# EAGLE library part SOFT_LATCHING_SWITCH (library Linus Eagle Library)
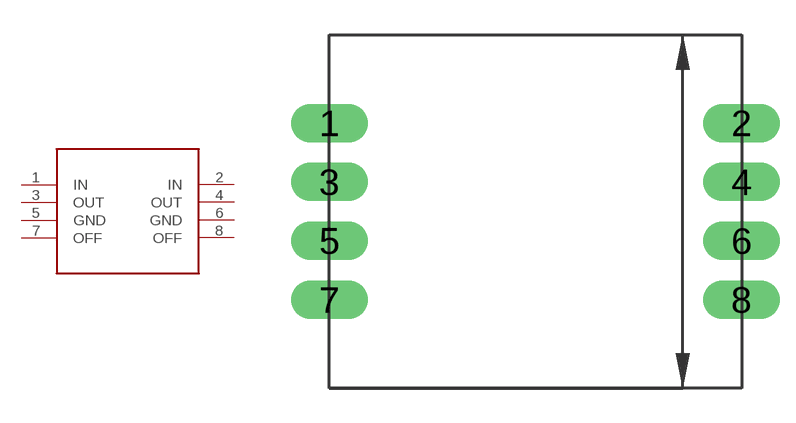
[diagram p3: symbol with the pads of SOFT_LATCHING_SWITCH; footprint SOFT_LATCHING_SWITCH]

Designator prefix -

## SOFT_LATCHING_SWITCH  [SOFT_LATCHING_SWITCH]
1  IN
2  IN
3  OUT
4  OUT
5  GND
6  GND
7  OFF
8  OFF

## Footprint SOFT_LATCHING_SWITCH (pad centres in mm)
drill 1.016 pad 1.651 long: 1 0,11.43; 2 17.78,11.43; 3 0,8.89; 4 17.78,8.89; 5 0,6.35; 6 17.78,6.35; 7 0,3.81; 8 17.78,3.81